# Altium schematic symbol library capacitors.SchLib: 195 symbols (part 4 of 4)
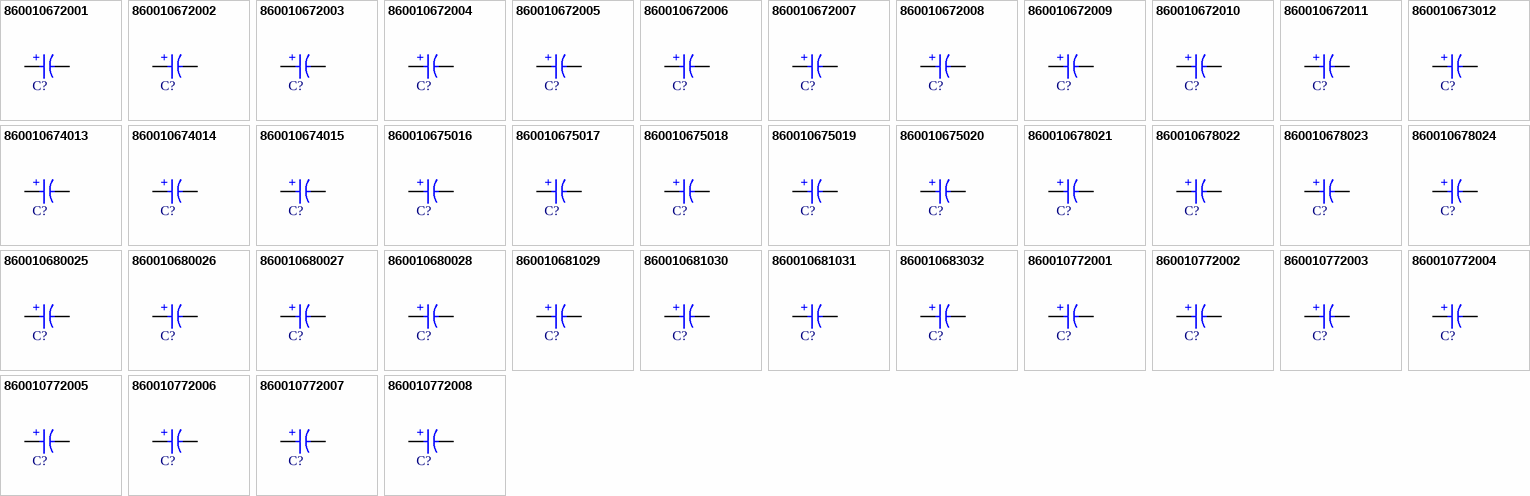
[diagram p7: symbols 860010672001 to 860010772008]

## 860010772004
designator C?, comment 0.47uF  (value not drawn)
WCAP-ATG8 Aluminum Electrolytic Capacitor, Radial, THT, D5 x H11mm, 0.47uF, 63V; Manufacturer Part Number: 860010772004; Manufacturer: Wurth Elektronik; Capacitance Tolerance: +/-20%; Dissipation Factor: 9%; Endurance: 2000h; Leakage Current: 3uA; Ripple Current: 8mA; Technical Reference: ATBC110R47M063DSPA3B000; Category: Aluminum Electrolytic Capacitors; Match Code: WCAP-ATG8; ComponentLink1Description: Website Link; ComponentLink1URL: https://www.we-online.com/redexpert/article/860010772004?ad; ComponentLink2Description: Datasheet Link; ComponentLink2URL: https://www.we-online.com/redexpert/spec/860010772004?ad; Mount: Through Hole; Operating Temperature Max: 85°C; Operating Temperature Min: -40°C; Packaging: Ammo Pack; Height: 11mm; Diameter: 5mm; Capacitance: 0.47uF; Rated Voltage (DC): 63V
footprint WCAP-ATG8_D5H11
simulation model 860010772004_470nF
pins: 1 P, 2 N
text: +

## 860010772005
designator C?, comment 1uF  (value not drawn)
WCAP-ATG8 Aluminum Electrolytic Capacitor, Radial, THT, D5 x H11mm, 1uF, 63V; Manufacturer Part Number: 860010772005; Manufacturer: Wurth Elektronik; Capacitance Tolerance: +/-20%; Dissipation Factor: 9%; Endurance: 2000h; Leakage Current: 3uA; Ripple Current: 17mA; Technical Reference: ATBC110010M063DSPA3B000; Category: Aluminum Electrolytic Capacitors; Match Code: WCAP-ATG8; ComponentLink1Description: Website Link; ComponentLink1URL: https://www.we-online.com/redexpert/article/860010772005?ad; ComponentLink2Description: Datasheet Link; ComponentLink2URL: https://www.we-online.com/redexpert/spec/860010772005?ad; Mount: Through Hole; Operating Temperature Max: 85°C; Operating Temperature Min: -40°C; Packaging: Ammo Pack; Height: 11mm; Diameter: 5mm; Capacitance: 1uF; Rated Voltage (DC): 63V
footprint WCAP-ATG8_D5H11
simulation model 860010772005_1uF
pins: 1 P, 2 N
text: +

## 860010772006
designator C?, comment 2.2uF  (value not drawn)
WCAP-ATG8 Aluminum Electrolytic Capacitor, Radial, THT, D5 x H11mm, 2.2uF, 63V; Manufacturer Part Number: 860010772006; Manufacturer: Wurth Elektronik; Capacitance Tolerance: +/-20%; Dissipation Factor: 9%; Endurance: 2000h; Leakage Current: 3uA; Ripple Current: 31mA; Technical Reference: ATBC1102R2M063DSPA3B000; Category: Aluminum Electrolytic Capacitors; Match Code: WCAP-ATG8; ComponentLink1Description: Website Link; ComponentLink1URL: https://www.we-online.com/redexpert/article/860010772006?ad; ComponentLink2Description: Datasheet Link; ComponentLink2URL: https://www.we-online.com/redexpert/spec/860010772006?ad; Mount: Through Hole; Operating Temperature Max: 85°C; Operating Temperature Min: -40°C; Packaging: Ammo Pack; Height: 11mm; Diameter: 5mm; Capacitance: 2.2uF; Rated Voltage (DC): 63V
footprint WCAP-ATG8_D5H11
simulation model 860010772006_2.2uF
pins: 1 P, 2 N
text: +

## 860010772007
designator C?, comment 3.3uF  (value not drawn)
WCAP-ATG8 Aluminum Electrolytic Capacitor, Radial, THT, D5 x H11mm, 3.3uF, 63V; Manufacturer Part Number: 860010772007; Manufacturer: Wurth Elektronik; Capacitance Tolerance: +/-20%; Dissipation Factor: 9%; Endurance: 2000h; Leakage Current: 3uA; Ripple Current: 39mA; Technical Reference: ATBC1103R3M063DSPA3B000; Category: Aluminum Electrolytic Capacitors; Match Code: WCAP-ATG8; ComponentLink1Description: Website Link; ComponentLink1URL: https://www.we-online.com/redexpert/article/860010772007?ad; ComponentLink2Description: Datasheet Link; ComponentLink2URL: https://www.we-online.com/redexpert/spec/860010772007?ad; Mount: Through Hole; Operating Temperature Max: 85°C; Operating Temperature Min: -40°C; Packaging: Ammo Pack; Height: 11mm; Diameter: 5mm; Capacitance: 3.3uF; Rated Voltage (DC): 63V
footprint WCAP-ATG8_D5H11
simulation model 860010772007_3.3uF
pins: 1 P, 2 N
text: +

## 860010772008
designator C?, comment 4.7uF  (value not drawn)
WCAP-ATG8 Aluminum Electrolytic Capacitor, Radial, THT, D5 x H11mm, 4.7uF, 63V; Manufacturer Part Number: 860010772008; Manufacturer: Wurth Elektronik; Capacitance Tolerance: +/-20%; Dissipation Factor: 9%; Endurance: 2000h; Leakage Current: 3uA; Ripple Current: 50mA; Technical Reference: ATBC1104R7M063DSPA3B000; Category: Aluminum Electrolytic Capacitors; Match Code: WCAP-ATG8; ComponentLink1Description: Website Link; ComponentLink1URL: https://www.we-online.com/redexpert/article/860010772008?ad; ComponentLink2Description: Datasheet Link; ComponentLink2URL: https://www.we-online.com/redexpert/spec/860010772008?ad; Mount: Through Hole; Operating Temperature Max: 85°C; Operating Temperature Min: -40°C; Packaging: Ammo Pack; Height: 11mm; Diameter: 5mm; Capacitance: 4.7uF; Rated Voltage (DC): 63V
footprint WCAP-ATG8_D5H11
simulation model 860010772008_4.7uF
pins: 1 P, 2 N
text: +

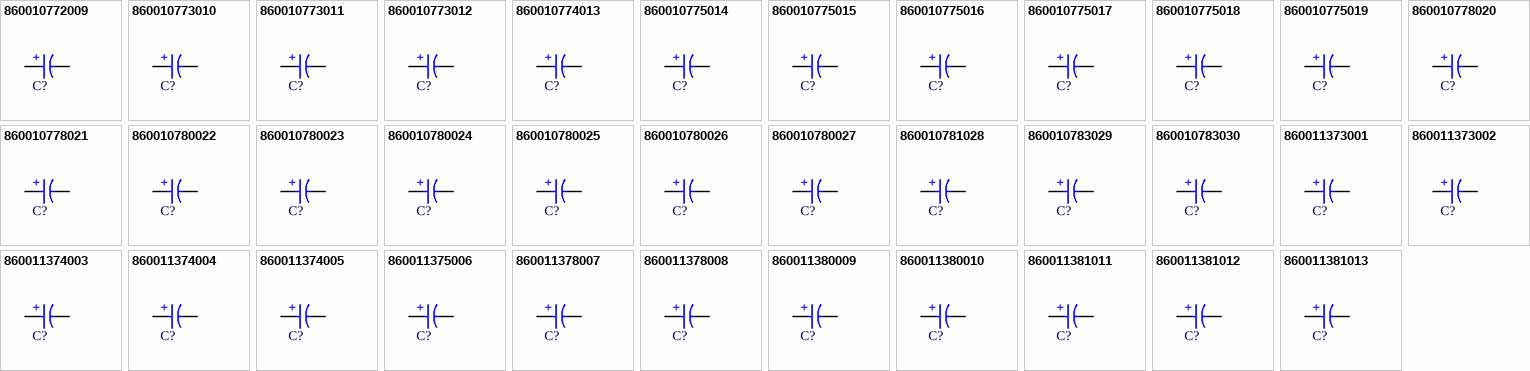
[diagram p4: symbols 860010772009 to 860011381013]

## 860010772009
designator C?, comment 10uF  (value not drawn)
WCAP-ATG8 Aluminum Electrolytic Capacitor, Radial, THT, D5 x H11mm, 10uF, 63V; Manufacturer Part Number: 860010772009; Manufacturer: Wurth Elektronik; Capacitance Tolerance: +/-20%; Dissipation Factor: 9%; Endurance: 2000h; Leakage Current: 6.3uA; Ripple Current: 77mA; Technical Reference: ATBC110100M063DSPA3B000; Category: Aluminum Electrolytic Capacitors; Match Code: WCAP-ATG8; ComponentLink1Description: Website Link; ComponentLink1URL: https://www.we-online.com/redexpert/article/860010772009?ad; ComponentLink2Description: Datasheet Link; ComponentLink2URL: https://www.we-online.com/redexpert/spec/860010772009?ad; Mount: Through Hole; Operating Temperature Max: 85°C; Operating Temperature Min: -40°C; Packaging: Ammo Pack; Height: 11mm; Diameter: 5mm; Capacitance: 10uF; Rated Voltage (DC): 63V
footprint WCAP-ATG8_D5H11
simulation model 860010772009_10uF
pins: 1 P, 2 N
text: +

## 860010773010
designator C?, comment 22uF  (value not drawn)
WCAP-ATG8 Aluminum Electrolytic Capacitor, Radial, THT, D6.3 x H11mm, 22uF, 63V; Manufacturer Part Number: 860010773010; Manufacturer: Wurth Elektronik; Capacitance Tolerance: +/-20%; Dissipation Factor: 9%; Endurance: 2000h; Leakage Current: 13.86uA; Ripple Current: 127mA; Technical Reference: ATBD110220M063DSPA4B000; Category: Aluminum Electrolytic Capacitors; Match Code: WCAP-ATG8; ComponentLink1Description: Website Link; ComponentLink1URL: https://www.we-online.com/redexpert/article/860010773010?ad; ComponentLink2Description: Datasheet Link; ComponentLink2URL: https://www.we-online.com/redexpert/spec/860010773010?ad; Mount: Through Hole; Operating Temperature Max: 85°C; Operating Temperature Min: -40°C; Packaging: Ammo Pack; Height: 11mm; Diameter: 6.3mm; Capacitance: 22uF; Rated Voltage (DC): 63V
footprint WCAP-ATG8_D6.3H11
simulation model 860010773010_22uF
pins: 1 P, 2 N
text: +

## 860010773011
designator C?, comment 33uF  (value not drawn)
WCAP-ATG8 Aluminum Electrolytic Capacitor, Radial, THT, D6.3 x H11mm, 33uF, 63V; Manufacturer Part Number: 860010773011; Manufacturer: Wurth Elektronik; Capacitance Tolerance: +/-20%; Dissipation Factor: 9%; Endurance: 2000h; Leakage Current: 20.79uA; Ripple Current: 149mA; Technical Reference: ATBD110330M063DSPA4B000; Category: Aluminum Electrolytic Capacitors; Match Code: WCAP-ATG8; ComponentLink1Description: Website Link; ComponentLink1URL: https://www.we-online.com/redexpert/article/860010773011?ad; ComponentLink2Description: Datasheet Link; ComponentLink2URL: https://www.we-online.com/redexpert/spec/860010773011?ad; Mount: Through Hole; Operating Temperature Max: 85°C; Operating Temperature Min: -40°C; Packaging: Ammo Pack; Height: 11mm; Diameter: 6.3mm; Capacitance: 33uF; Rated Voltage (DC): 63V
footprint WCAP-ATG8_D6.3H11
simulation model 860010773011_33uF
pins: 1 P, 2 N
text: +

## 860010773012
designator C?, comment 47uF  (value not drawn)
WCAP-ATG8 Aluminum Electrolytic Capacitor, Radial, THT, D6.3 x H11mm, 47uF, 63V; Manufacturer Part Number: 860010773012; Manufacturer: Wurth Elektronik; Capacitance Tolerance: +/-20%; Dissipation Factor: 9%; Endurance: 2000h; Leakage Current: 29.61uA; Ripple Current: 198mA; Technical Reference: ATBD110470M063DSPA4B000; Category: Aluminum Electrolytic Capacitors; Match Code: WCAP-ATG8; ComponentLink1Description: Website Link; ComponentLink1URL: https://www.we-online.com/redexpert/article/860010773012?ad; ComponentLink2Description: Datasheet Link; ComponentLink2URL: https://www.we-online.com/redexpert/spec/860010773012?ad; Mount: Through Hole; Operating Temperature Max: 85°C; Operating Temperature Min: -40°C; Packaging: Ammo Pack; Height: 11mm; Diameter: 6.3mm; Capacitance: 47uF; Rated Voltage (DC): 63V
footprint WCAP-ATG8_D6.3H11
simulation model 860010773012_47uF
pins: 1 P, 2 N
text: +

## 860010774013
designator C?, comment 68uF  (value not drawn)
WCAP-ATG8 Aluminum Electrolytic Capacitor, Radial, THT, D8 x H11.5mm, 68uF, 63V; Manufacturer Part Number: 860010774013; Manufacturer: Wurth Elektronik; Capacitance Tolerance: +/-20%; Dissipation Factor: 9%; Endurance: 2000h; Leakage Current: 42.84uA; Ripple Current: 253mA; Technical Reference: ATBE115680M063DSPA7B000; Category: Aluminum Electrolytic Capacitors; Match Code: WCAP-ATG8; ComponentLink1Description: Website Link; ComponentLink1URL: https://www.we-online.com/redexpert/article/860010774013?ad; ComponentLink2Description: Datasheet Link; ComponentLink2URL: https://www.we-online.com/redexpert/spec/860010774013?ad; Mount: Through Hole; Operating Temperature Max: 85°C; Operating Temperature Min: -40°C; Packaging: Ammo Pack; Height: 11.5mm; Diameter: 8mm; Capacitance: 68uF; Rated Voltage (DC): 63V
footprint WCAP-ATG8_D8H11.5
simulation model 860010774013_68uF
pins: 1 P, 2 N
text: +

## 860010775014
designator C?, comment 100uF  (value not drawn)
WCAP-ATG8 Aluminum Electrolytic Capacitor, Radial, THT, D10 x H12.5mm, 100uF, 63V; Manufacturer Part Number: 860010775014; Manufacturer: Wurth Elektronik; Capacitance Tolerance: +/-20%; Dissipation Factor: 9%; Endurance: 2000h; Leakage Current: 63uA; Ripple Current: 330mA; Technical Reference: ATBF125101M063DSPA9B000; Category: Aluminum Electrolytic Capacitors; Match Code: WCAP-ATG8; ComponentLink1Description: Website Link; ComponentLink1URL: https://www.we-online.com/redexpert/article/860010775014?ad; ComponentLink2Description: Datasheet Link; ComponentLink2URL: https://www.we-online.com/redexpert/spec/860010775014?ad; Mount: Through Hole; Operating Temperature Max: 85°C; Operating Temperature Min: -40°C; Packaging: Ammo Pack; Height: 12.5mm; Diameter: 10mm; Capacitance: 100uF; Rated Voltage (DC): 63V
footprint WCAP-ATG8_D10H12.5
simulation model 860010775014_100uF
pins: 1 P, 2 N
text: +

## 860010775015
designator C?, comment 120uF  (value not drawn)
WCAP-ATG8 Aluminum Electrolytic Capacitor, Radial, THT, D10 x H16mm, 120uF, 63V; Manufacturer Part Number: 860010775015; Manufacturer: Wurth Elektronik; Capacitance Tolerance: +/-20%; Dissipation Factor: 9%; Endurance: 2000h; Leakage Current: 75.6uA; Ripple Current: 396mA; Technical Reference: ATBF160121M063DSPAAB000; Category: Aluminum Electrolytic Capacitors; Match Code: WCAP-ATG8; ComponentLink1Description: Website Link; ComponentLink1URL: https://www.we-online.com/redexpert/article/860010775015?ad; ComponentLink2Description: Datasheet Link; ComponentLink2URL: https://www.we-online.com/redexpert/spec/860010775015?ad; Mount: Through Hole; Operating Temperature Max: 85°C; Operating Temperature Min: -40°C; Packaging: Ammo Pack; Height: 16mm; Diameter: 10mm; Capacitance: 120uF; Rated Voltage (DC): 63V
footprint WCAP-ATG8_D10H16
simulation model 860010775015_120uF
pins: 1 P, 2 N
text: +

## 860010775016
designator C?, comment 150uF  (value not drawn)
WCAP-ATG8 Aluminum Electrolytic Capacitor, Radial, THT, D10 x H16mm, 150uF, 63V; Manufacturer Part Number: 860010775016; Manufacturer: Wurth Elektronik; Capacitance Tolerance: +/-20%; Dissipation Factor: 9%; Endurance: 2000h; Leakage Current: 94.5uA; Ripple Current: 462mA; Technical Reference: ATBF160151M063DSPAAB000; Category: Aluminum Electrolytic Capacitors; Match Code: WCAP-ATG8; ComponentLink1Description: Website Link; ComponentLink1URL: https://www.we-online.com/redexpert/article/860010775016?ad; ComponentLink2Description: Datasheet Link; ComponentLink2URL: https://www.we-online.com/redexpert/spec/860010775016?ad; Mount: Through Hole; Operating Temperature Max: 85°C; Operating Temperature Min: -40°C; Packaging: Ammo Pack; Height: 16mm; Diameter: 10mm; Capacitance: 150uF; Rated Voltage (DC): 63V
footprint WCAP-ATG8_D10H16
simulation model 860010775016_150uF
pins: 1 P, 2 N
text: +

## 860010775017
designator C?, comment 180uF  (value not drawn)
WCAP-ATG8 Aluminum Electrolytic Capacitor, Radial, THT, D10 x H16mm, 180uF, 63V; Manufacturer Part Number: 860010775017; Manufacturer: Wurth Elektronik; Capacitance Tolerance: +/-20%; Dissipation Factor: 9%; Endurance: 2000h; Leakage Current: 113.4uA; Ripple Current: 528mA; Technical Reference: ATBF160181M063DSPAAB000; Category: Aluminum Electrolytic Capacitors; Match Code: WCAP-ATG8; ComponentLink1Description: Website Link; ComponentLink1URL: https://www.we-online.com/redexpert/article/860010775017?ad; ComponentLink2Description: Datasheet Link; ComponentLink2URL: https://www.we-online.com/redexpert/spec/860010775017?ad; Mount: Through Hole; Operating Temperature Max: 85°C; Operating Temperature Min: -40°C; Packaging: Ammo Pack; Height: 16mm; Diameter: 10mm; Capacitance: 180uF; Rated Voltage (DC): 63V
footprint WCAP-ATG8_D10H16
simulation model 860010775017_180uF
pins: 1 P, 2 N
text: +

## 860010775018
designator C?, comment 220uF  (value not drawn)
WCAP-ATG8 Aluminum Electrolytic Capacitor, Radial, THT, D10 x H16mm, 220uF, 63V; Manufacturer Part Number: 860010775018; Manufacturer: Wurth Elektronik; Capacitance Tolerance: +/-20%; Dissipation Factor: 9%; Endurance: 2000h; Leakage Current: 138.6uA; Ripple Current: 550mA; Technical Reference: ATBF160221M063DSPAAB000; Category: Aluminum Electrolytic Capacitors; Match Code: WCAP-ATG8; ComponentLink1Description: Website Link; ComponentLink1URL: https://www.we-online.com/redexpert/article/860010775018?ad; ComponentLink2Description: Datasheet Link; ComponentLink2URL: https://www.we-online.com/redexpert/spec/860010775018?ad; Mount: Through Hole; Operating Temperature Max: 85°C; Operating Temperature Min: -40°C; Packaging: Ammo Pack; Height: 16mm; Diameter: 10mm; Capacitance: 220uF; Rated Voltage (DC): 63V
footprint WCAP-ATG8_D10H16
simulation model 860010775018_220uF
pins: 1 P, 2 N
text: +

## 860010775019
designator C?, comment 330uF  (value not drawn)
WCAP-ATG8 Aluminum Electrolytic Capacitor, Radial, THT, D10 x H20mm, 330uF, 63V; Manufacturer Part Number: 860010775019; Manufacturer: Wurth Elektronik; Capacitance Tolerance: +/-20%; Dissipation Factor: 9%; Endurance: 2000h; Leakage Current: 207.9uA; Ripple Current: 759mA; Technical Reference: ATBF200331M063DSPAAB000; Category: Aluminum Electrolytic Capacitors; Match Code: WCAP-ATG8; ComponentLink1Description: Website Link; ComponentLink1URL: https://www.we-online.com/redexpert/article/860010775019?ad; ComponentLink2Description: Datasheet Link; ComponentLink2URL: https://www.we-online.com/redexpert/spec/860010775019?ad; Mount: Through Hole; Operating Temperature Max: 85°C; Operating Temperature Min: -40°C; Packaging: Ammo Pack; Height: 20mm; Diameter: 10mm; Capacitance: 330uF; Rated Voltage (DC): 63V
footprint WCAP-ATG8_D10H20
simulation model 860010775019_330uF
pins: 1 P, 2 N
text: +

## 860010778020
designator C?, comment 470uF  (value not drawn)
WCAP-ATG8 Aluminum Electrolytic Capacitor, Radial, THT, D13 x H20mm, 470uF, 63V; Manufacturer Part Number: 860010778020; Manufacturer: Wurth Elektronik; Capacitance Tolerance: +/-20%; Dissipation Factor: 9%; Endurance: 2000h; Leakage Current: 296.1uA; Ripple Current: 968mA; Technical Reference: ATBI200471M063DSPACB000; Category: Aluminum Electrolytic Capacitors; Match Code: WCAP-ATG8; ComponentLink1Description: Website Link; ComponentLink1URL: https://www.we-online.com/redexpert/article/860010778020?ad; ComponentLink2Description: Datasheet Link; ComponentLink2URL: https://www.we-online.com/redexpert/spec/860010778020?ad; Mount: Through Hole; Operating Temperature Max: 85°C; Operating Temperature Min: -40°C; Packaging: Ammo Pack; Height: 20mm; Diameter: 13mm; Capacitance: 470uF; Rated Voltage (DC): 63V
footprint WCAP-ATG8_D13H20
simulation model 860010778020_470uF
pins: 1 P, 2 N
text: +

## 860010778021
designator C?, comment 560uF  (value not drawn)
WCAP-ATG8 Aluminum Electrolytic Capacitor, Radial, THT, D13 x H25mm, 560uF, 63V; Manufacturer Part Number: 860010778021; Manufacturer: Wurth Elektronik; Capacitance Tolerance: +/-20%; Dissipation Factor: 9%; Endurance: 2000h; Leakage Current: 352.8uA; Ripple Current: 1056mA; Technical Reference: ATBI250561M063DSPACB000; Category: Aluminum Electrolytic Capacitors; Match Code: WCAP-ATG8; ComponentLink1Description: Website Link; ComponentLink1URL: https://www.we-online.com/redexpert/article/860010778021?ad; ComponentLink2Description: Datasheet Link; ComponentLink2URL: https://www.we-online.com/redexpert/spec/860010778021?ad; Mount: Through Hole; Operating Temperature Max: 85°C; Operating Temperature Min: -40°C; Packaging: Ammo Pack; Height: 25mm; Diameter: 13mm; Capacitance: 560uF; Rated Voltage (DC): 63V
footprint WCAP-ATG8_D13H25
simulation model 860010778021_560uF
pins: 1 P, 2 N
text: +

## 860010780022
designator C?, comment 680uF  (value not drawn)
WCAP-ATG8 Aluminum Electrolytic Capacitor, Radial, THT, D16 x H25mm, 680uF, 63V; Manufacturer Part Number: 860010780022; Manufacturer: Wurth Elektronik; Capacitance Tolerance: +/-20%; Dissipation Factor: 9%; Endurance: 2000h; Leakage Current: 428.4uA; Ripple Current: 1265mA; Technical Reference: ATBK250681M063DSPAEB000; Category: Aluminum Electrolytic Capacitors; Match Code: WCAP-ATG8; ComponentLink1Description: Website Link; ComponentLink1URL: https://www.we-online.com/redexpert/article/860010780022?ad; ComponentLink2Description: Datasheet Link; ComponentLink2URL: https://www.we-online.com/redexpert/spec/860010780022?ad; Mount: Through Hole; Operating Temperature Max: 85°C; Operating Temperature Min: -40°C; Packaging: Ammo Pack; Height: 25mm; Diameter: 16mm; Capacitance: 680uF; Rated Voltage (DC): 63V
footprint WCAP-ATG8_D16H25
simulation model 860010780022_680uF
pins: 1 P, 2 N
text: +

## 860010780023
designator C?, comment 820uF  (value not drawn)
WCAP-ATG8 Aluminum Electrolytic Capacitor, Radial, THT, D16 x H25mm, 820uF, 63V; Manufacturer Part Number: 860010780023; Manufacturer: Wurth Elektronik; Capacitance Tolerance: +/-20%; Dissipation Factor: 9%; Endurance: 2000h; Leakage Current: 516.6uA; Ripple Current: 1430mA; Technical Reference: ATBK250821M063DSPAEB000; Category: Aluminum Electrolytic Capacitors; Match Code: WCAP-ATG8; ComponentLink1Description: Website Link; ComponentLink1URL: https://www.we-online.com/redexpert/article/860010780023?ad; ComponentLink2Description: Datasheet Link; ComponentLink2URL: https://www.we-online.com/redexpert/spec/860010780023?ad; Mount: Through Hole; Operating Temperature Max: 85°C; Operating Temperature Min: -40°C; Packaging: Ammo Pack; Height: 25mm; Diameter: 16mm; Capacitance: 820uF; Rated Voltage (DC): 63V
footprint WCAP-ATG8_D16H25
simulation model 860010780023_820uF
pins: 1 P, 2 N
text: +

## 860010780024
designator C?, comment 1000uF  (value not drawn)
WCAP-ATG8 Aluminum Electrolytic Capacitor, Radial, THT, D16 x H25mm, 1000uF, 63V; Manufacturer Part Number: 860010780024; Manufacturer: Wurth Elektronik; Capacitance Tolerance: +/-20%; Dissipation Factor: 9%; Endurance: 2000h; Leakage Current: 630uA; Ripple Current: 1540mA; Technical Reference: ATBK250102M063DSPAEB000; Category: Aluminum Electrolytic Capacitors; Match Code: WCAP-ATG8; ComponentLink1Description: Website Link; ComponentLink1URL: https://www.we-online.com/redexpert/article/860010780024?ad; ComponentLink2Description: Datasheet Link; ComponentLink2URL: https://www.we-online.com/redexpert/spec/860010780024?ad; Mount: Through Hole; Operating Temperature Max: 85°C; Operating Temperature Min: -40°C; Packaging: Ammo Pack; Height: 25mm; Diameter: 16mm; Capacitance: 1000uF; Rated Voltage (DC): 63V
footprint WCAP-ATG8_D16H25
simulation model 860010780024_1mF
pins: 1 P, 2 N
text: +

## 860010780025
designator C?, comment 1200uF  (value not drawn)
WCAP-ATG8 Aluminum Electrolytic Capacitor, Radial, THT, D16 x H31.5mm, 1200uF, 63V; Manufacturer Part Number: 860010780025; Manufacturer: Wurth Elektronik; Capacitance Tolerance: +/-20%; Dissipation Factor: 9%; Endurance: 2000h; Leakage Current: 756uA; Ripple Current: 1837mA; Technical Reference: ATBK315122M063DSPADB000; Category: Aluminum Electrolytic Capacitors; Match Code: WCAP-ATG8; ComponentLink1Description: Website Link; ComponentLink1URL: https://www.we-online.com/redexpert/article/860010780025?ad; ComponentLink2Description: Datasheet Link; ComponentLink2URL: https://www.we-online.com/redexpert/spec/860010780025?ad; Mount: Through Hole; Operating Temperature Max: 85°C; Operating Temperature Min: -40°C; Packaging: Ammo Pack; Height: 31.5mm; Diameter: 16mm; Capacitance: 1200uF; Rated Voltage (DC): 63V
footprint WCAP-ATG8_D16H31.5
simulation model 860010780025_1.2mF
pins: 1 P, 2 N
text: +

## 860010780026
designator C?, comment 1500uF  (value not drawn)
WCAP-ATG8 Aluminum Electrolytic Capacitor, Radial, THT, D16 x H35.5mm, 1500uF, 63V; Manufacturer Part Number: 860010780026; Manufacturer: Wurth Elektronik; Capacitance Tolerance: +/-20%; Dissipation Factor: 9%; Endurance: 2000h; Leakage Current: 945uA; Ripple Current: 2090mA; Technical Reference: ATBK355152M063DSPADB000; Category: Aluminum Electrolytic Capacitors; Match Code: WCAP-ATG8; ComponentLink1Description: Website Link; ComponentLink1URL: https://www.we-online.com/redexpert/article/860010780026?ad; ComponentLink2Description: Datasheet Link; ComponentLink2URL: https://www.we-online.com/redexpert/spec/860010780026?ad; Mount: Through Hole; Operating Temperature Max: 85°C; Operating Temperature Min: -40°C; Packaging: Ammo Pack; Height: 35.5mm; Diameter: 16mm; Capacitance: 1500uF; Rated Voltage (DC): 63V
footprint WCAP-ATG8_D16H35.5
simulation model 860010780026_1.5mF
pins: 1 P, 2 N
text: +

## 860010780027
designator C?, comment 1800uF  (value not drawn)
WCAP-ATG8 Aluminum Electrolytic Capacitor, Radial, THT, D16 x H35.5mm, 1800uF, 63V; Manufacturer Part Number: 860010780027; Manufacturer: Wurth Elektronik; Capacitance Tolerance: +/-20%; Dissipation Factor: 9%; Endurance: 2000h; Leakage Current: 1134uA; Ripple Current: 2255mA; Technical Reference: ATBK355182M063DSPADB000; Category: Aluminum Electrolytic Capacitors; Match Code: WCAP-ATG8; ComponentLink1Description: Website Link; ComponentLink1URL: https://www.we-online.com/redexpert/article/860010780027?ad; ComponentLink2Description: Datasheet Link; ComponentLink2URL: https://www.we-online.com/redexpert/spec/860010780027?ad; Mount: Through Hole; Operating Temperature Max: 85°C; Operating Temperature Min: -40°C; Packaging: Ammo Pack; Height: 35.5mm; Diameter: 16mm; Capacitance: 1800uF; Rated Voltage (DC): 63V
footprint WCAP-ATG8_D16H35.5
simulation model 860010780027_1.8mF
pins: 1 P, 2 N
text: +

## 860010781028
designator C?, comment 2200uF  (value not drawn)
WCAP-ATG8 Aluminum Electrolytic Capacitor, Radial, THT, D18 x H35.5mm, 2200uF, 63V; Manufacturer Part Number: 860010781028; Manufacturer: Wurth Elektronik; Capacitance Tolerance: +/-20%; Dissipation Factor: 9%; Endurance: 2000h; Leakage Current: 1386uA; Ripple Current: 2475mA; Technical Reference: ATBL355222M063DSPAEB000; Category: Aluminum Electrolytic Capacitors; Match Code: WCAP-ATG8; ComponentLink1Description: Website Link; ComponentLink1URL: https://www.we-online.com/redexpert/article/860010781028?ad; ComponentLink2Description: Datasheet Link; ComponentLink2URL: https://www.we-online.com/redexpert/spec/860010781028?ad; Mount: Through Hole; Operating Temperature Max: 85°C; Operating Temperature Min: -40°C; Packaging: Ammo Pack; Height: 35.5mm; Diameter: 18mm; Capacitance: 2200uF; Rated Voltage (DC): 63V
footprint WCAP-ATG8_D18H35.5
simulation model 860010781028_2.2mF
pins: 1 P, 2 N
text: +

## 860010783029
designator C?, comment 2700uF  (value not drawn)
WCAP-ATG8 Aluminum Electrolytic Capacitor, Radial, THT, D22 x H41mm, 2700uF, 63V; Manufacturer Part Number: 860010783029; Manufacturer: Wurth Elektronik; Capacitance Tolerance: +/-20%; Dissipation Factor: 9%; Endurance: 2000h; Leakage Current: 1701uA; Ripple Current: 2860mA; Technical Reference: ATBN410272M063DSPS2B000; Category: Aluminum Electrolytic Capacitors; Match Code: WCAP-ATG8; ComponentLink1Description: Website Link; ComponentLink1URL: https://www.we-online.com/redexpert/article/860010783029?ad; ComponentLink2Description: Datasheet Link; ComponentLink2URL: https://www.we-online.com/redexpert/spec/860010783029?ad; Mount: Through Hole; Operating Temperature Max: 85°C; Operating Temperature Min: -40°C; Packaging: Ammo Pack; Height: 41mm; Diameter: 22mm; Capacitance: 2700uF; Rated Voltage (DC): 63V
footprint WCAP-ATG8_D22H41
simulation model 860010783029_2.7mF
pins: 1 P, 2 N
text: +

## 860010783030
designator C?, comment 3300uF  (value not drawn)
WCAP-ATG8 Aluminum Electrolytic Capacitor, Radial, THT, D22 x H41mm, 3300uF, 63V; Manufacturer Part Number: 860010783030; Manufacturer: Wurth Elektronik; Capacitance Tolerance: +/-20%; Dissipation Factor: 9%; Endurance: 2000h; Leakage Current: 2079uA; Ripple Current: 3080mA; Technical Reference: ATBN410332M063DSPS2B000; Category: Aluminum Electrolytic Capacitors; Match Code: WCAP-ATG8; ComponentLink1Description: Website Link; ComponentLink1URL: https://www.we-online.com/redexpert/article/860010783030?ad; ComponentLink2Description: Datasheet Link; ComponentLink2URL: https://www.we-online.com/redexpert/spec/860010783030?ad; Mount: Through Hole; Operating Temperature Max: 85°C; Operating Temperature Min: -40°C; Packaging: Ammo Pack; Height: 41mm; Diameter: 22mm; Capacitance: 3300uF; Rated Voltage (DC): 63V
footprint WCAP-ATG8_D22H41
simulation model 860010783030_3.3mF
pins: 1 P, 2 N
text: +

## 860011373001
designator C?, comment 0.47uF  (value not drawn)
WCAP-ATG8 Aluminum Electrolytic Capacitor, Radial, THT, D6.3 x H11mm, 0.47uF, 400V; Manufacturer Part Number: 860011373001; Manufacturer: Wurth Elektronik; Capacitance Tolerance: +/-20%; Dissipation Factor: 15%; Endurance: 2000h; Leakage Current: 5.64uA; Ripple Current: 12mA; Technical Reference: ATAD110R47M400DSPA4B000; Category: Aluminum Electrolytic Capacitors; Match Code: WCAP-ATG8; ComponentLink1Description: Website Link; ComponentLink1URL: https://www.we-online.com/redexpert/article/860011373001?ad; ComponentLink2Description: Datasheet Link; ComponentLink2URL: https://www.we-online.com/redexpert/spec/860011373001?ad; Mount: Through Hole; Operating Temperature Max: 85°C; Operating Temperature Min: -25°C; Packaging: Ammo Pack; Height: 11mm; Diameter: 6.3mm; Capacitance: 0.47uF; Rated Voltage (DC): 400V
footprint WCAP-ATG8_D6.3H11
simulation model 860011373001_470nF
pins: 1 P, 2 N
text: +

## 860011373002
designator C?, comment 1uF  (value not drawn)
WCAP-ATG8 Aluminum Electrolytic Capacitor, Radial, THT, D6.3 x H11mm, 1uF, 400V; Manufacturer Part Number: 860011373002; Manufacturer: Wurth Elektronik; Capacitance Tolerance: +/-20%; Dissipation Factor: 15%; Endurance: 2000h; Leakage Current: 12uA; Ripple Current: 20mA; Technical Reference: ATAD110010M400DSPA4B000; Category: Aluminum Electrolytic Capacitors; Match Code: WCAP-ATG8; ComponentLink1Description: Website Link; ComponentLink1URL: https://www.we-online.com/redexpert/article/860011373002?ad; ComponentLink2Description: Datasheet Link; ComponentLink2URL: https://www.we-online.com/redexpert/spec/860011373002?ad; Mount: Through Hole; Operating Temperature Max: 85°C; Operating Temperature Min: -25°C; Packaging: Ammo Pack; Height: 11mm; Diameter: 6.3mm; Capacitance: 1uF; Rated Voltage (DC): 400V
footprint WCAP-ATG8_D6.3H11
simulation model 860011373002_1uF
pins: 1 P, 2 N
text: +

## 860011374003
designator C?, comment 2.2uF  (value not drawn)
WCAP-ATG8 Aluminum Electrolytic Capacitor, Radial, THT, D8 x H11.5mm, 2.2uF, 400V; Manufacturer Part Number: 860011374003; Manufacturer: Wurth Elektronik; Capacitance Tolerance: +/-20%; Dissipation Factor: 15%; Endurance: 2000h; Leakage Current: 26.4uA; Ripple Current: 32mA; Technical Reference: ATAE1152R2M400DSPA7B000; Category: Aluminum Electrolytic Capacitors; Match Code: WCAP-ATG8; ComponentLink1Description: Website Link; ComponentLink1URL: https://www.we-online.com/redexpert/article/860011374003?ad; ComponentLink2Description: Datasheet Link; ComponentLink2URL: https://www.we-online.com/redexpert/spec/860011374003?ad; Mount: Through Hole; Operating Temperature Max: 85°C; Operating Temperature Min: -25°C; Packaging: Ammo Pack; Height: 11.5mm; Diameter: 8mm; Capacitance: 2.2uF; Rated Voltage (DC): 400V
footprint WCAP-ATG8_D8H11.5
simulation model 860011374003_2.2uF
pins: 1 P, 2 N
text: +

## 860011374004
designator C?, comment 3.3uF  (value not drawn)
WCAP-ATG8 Aluminum Electrolytic Capacitor, Radial, THT, D8 x H11.5mm, 3.3uF, 400V; Manufacturer Part Number: 860011374004; Manufacturer: Wurth Elektronik; Capacitance Tolerance: +/-20%; Dissipation Factor: 15%; Endurance: 2000h; Leakage Current: 39.6uA; Ripple Current: 45mA; Technical Reference: ATAE1153R3M400DSPA7B000; Category: Aluminum Electrolytic Capacitors; Match Code: WCAP-ATG8; ComponentLink1Description: Website Link; ComponentLink1URL: https://www.we-online.com/redexpert/article/860011374004?ad; ComponentLink2Description: Datasheet Link; ComponentLink2URL: https://www.we-online.com/redexpert/spec/860011374004?ad; Mount: Through Hole; Operating Temperature Max: 85°C; Operating Temperature Min: -25°C; Packaging: Ammo Pack; Height: 11.5mm; Diameter: 8mm; Capacitance: 3.3uF; Rated Voltage (DC): 400V
footprint WCAP-ATG8_D8H11.5
simulation model 860011374004_3.3uF
pins: 1 P, 2 N
text: +

## 860011374005
designator C?, comment 4.7uF  (value not drawn)
WCAP-ATG8 Aluminum Electrolytic Capacitor, Radial, THT, D8 x H11.5mm, 4.7uF, 400V; Manufacturer Part Number: 860011374005; Manufacturer: Wurth Elektronik; Capacitance Tolerance: +/-20%; Dissipation Factor: 15%; Endurance: 2000h; Leakage Current: 56.4uA; Ripple Current: 55mA; Technical Reference: ATAE1154R7M400DSPA7B000; Category: Aluminum Electrolytic Capacitors; Match Code: WCAP-ATG8; ComponentLink1Description: Website Link; ComponentLink1URL: https://www.we-online.com/redexpert/article/860011374005?ad; ComponentLink2Description: Datasheet Link; ComponentLink2URL: https://www.we-online.com/redexpert/spec/860011374005?ad; Mount: Through Hole; Operating Temperature Max: 85°C; Operating Temperature Min: -25°C; Packaging: Ammo Pack; Height: 11.5mm; Diameter: 8mm; Capacitance: 4.7uF; Rated Voltage (DC): 400V
footprint WCAP-ATG8_D8H11.5
simulation model 860011374005_4.7uF
pins: 1 P, 2 N
text: +

## 860011375006
designator C?, comment 10uF  (value not drawn)
WCAP-ATG8 Aluminum Electrolytic Capacitor, Radial, THT, D10 x H16mm, 10uF, 400V; Manufacturer Part Number: 860011375006; Manufacturer: Wurth Elektronik; Capacitance Tolerance: +/-20%; Dissipation Factor: 15%; Endurance: 2000h; Leakage Current: 120uA; Ripple Current: 100mA; Technical Reference: ATAF160100M400DSPAAB000; Category: Aluminum Electrolytic Capacitors; Match Code: WCAP-ATG8; ComponentLink1Description: Website Link; ComponentLink1URL: https://www.we-online.com/redexpert/article/860011375006?ad; ComponentLink2Description: Datasheet Link; ComponentLink2URL: https://www.we-online.com/redexpert/spec/860011375006?ad; Mount: Through Hole; Operating Temperature Max: 85°C; Operating Temperature Min: -25°C; Packaging: Ammo Pack; Height: 16mm; Diameter: 10mm; Capacitance: 10uF; Rated Voltage (DC): 400V
footprint WCAP-ATG8_D10H16
simulation model 860011375006_10uF
pins: 1 P, 2 N
text: +

## 860011378007
designator C?, comment 22uF  (value not drawn)
WCAP-ATG8 Aluminum Electrolytic Capacitor, Radial, THT, D13 x H20mm, 22uF, 400V; Manufacturer Part Number: 860011378007; Manufacturer: Wurth Elektronik; Capacitance Tolerance: +/-20%; Dissipation Factor: 15%; Endurance: 2000h; Leakage Current: 264uA; Ripple Current: 190mA; Technical Reference: ATAI200220M400DSPACB000; Category: Aluminum Electrolytic Capacitors; Match Code: WCAP-ATG8; ComponentLink1Description: Website Link; ComponentLink1URL: https://www.we-online.com/redexpert/article/860011378007?ad; ComponentLink2Description: Datasheet Link; ComponentLink2URL: https://www.we-online.com/redexpert/spec/860011378007?ad; Mount: Through Hole; Operating Temperature Max: 85°C; Operating Temperature Min: -25°C; Packaging: Ammo Pack; Height: 20mm; Diameter: 13mm; Capacitance: 22uF; Rated Voltage (DC): 400V
footprint WCAP-ATG8_D13H20
simulation model 860011378007_22uF
pins: 1 P, 2 N
text: +

## 860011378008
designator C?, comment 33uF  (value not drawn)
WCAP-ATG8 Aluminum Electrolytic Capacitor, Radial, THT, D13 x H25mm, 33uF, 400V; Manufacturer Part Number: 860011378008; Manufacturer: Wurth Elektronik; Capacitance Tolerance: +/-20%; Dissipation Factor: 15%; Endurance: 2000h; Leakage Current: 396uA; Ripple Current: 230mA; Technical Reference: ATAI250330M400DSPACB000; Category: Aluminum Electrolytic Capacitors; Match Code: WCAP-ATG8; ComponentLink1Description: Website Link; ComponentLink1URL: https://www.we-online.com/redexpert/article/860011378008?ad; ComponentLink2Description: Datasheet Link; ComponentLink2URL: https://www.we-online.com/redexpert/spec/860011378008?ad; Mount: Through Hole; Operating Temperature Max: 85°C; Operating Temperature Min: -25°C; Packaging: Ammo Pack; Height: 25mm; Diameter: 13mm; Capacitance: 33uF; Rated Voltage (DC): 400V
footprint WCAP-ATG8_D13H25
simulation model 860011378008_33uF
pins: 1 P, 2 N
text: +

## 860011380009
designator C?, comment 47uF  (value not drawn)
WCAP-ATG8 Aluminum Electrolytic Capacitor, Radial, THT, D16 x H25mm, 47uF, 400V; Manufacturer Part Number: 860011380009; Manufacturer: Wurth Elektronik; Capacitance Tolerance: +/-20%; Dissipation Factor: 15%; Endurance: 2000h; Leakage Current: 564uA; Ripple Current: 270mA; Technical Reference: ATAK250470M400DSPAEB000; Category: Aluminum Electrolytic Capacitors; Match Code: WCAP-ATG8; ComponentLink1Description: Website Link; ComponentLink1URL: https://www.we-online.com/redexpert/article/860011380009?ad; ComponentLink2Description: Datasheet Link; ComponentLink2URL: https://www.we-online.com/redexpert/spec/860011380009?ad; Mount: Through Hole; Operating Temperature Max: 85°C; Operating Temperature Min: -25°C; Packaging: Ammo Pack; Height: 25mm; Diameter: 16mm; Capacitance: 47uF; Rated Voltage (DC): 400V
footprint WCAP-ATG8_D16H25
simulation model 860011380009_47uF
pins: 1 P, 2 N
text: +

## 860011380010
designator C?, comment 68uF  (value not drawn)
WCAP-ATG8 Aluminum Electrolytic Capacitor, Radial, THT, D16 x H35.5mm, 68uF, 400V; Manufacturer Part Number: 860011380010; Manufacturer: Wurth Elektronik; Capacitance Tolerance: +/-20%; Dissipation Factor: 15%; Endurance: 2000h; Leakage Current: 816uA; Ripple Current: 410mA; Technical Reference: ATAK355680M400DSPADB000; Category: Aluminum Electrolytic Capacitors; Match Code: WCAP-ATG8; ComponentLink1Description: Website Link; ComponentLink1URL: https://www.we-online.com/redexpert/article/860011380010?ad; ComponentLink2Description: Datasheet Link; ComponentLink2URL: https://www.we-online.com/redexpert/spec/860011380010?ad; Mount: Through Hole; Operating Temperature Max: 85°C; Operating Temperature Min: -25°C; Packaging: Ammo Pack; Height: 35.5mm; Diameter: 16mm; Capacitance: 68uF; Rated Voltage (DC): 400V
footprint WCAP-ATG8_D16H35.5
simulation model 860011380010_68uF
pins: 1 P, 2 N
text: +

## 860011381011
designator C?, comment 68uF  (value not drawn)
WCAP-ATG8 Aluminum Electrolytic Capacitor, Radial, THT, D18 x H25mm, 68uF, 400V; Manufacturer Part Number: 860011381011; Manufacturer: Wurth Elektronik; Capacitance Tolerance: +/-20%; Dissipation Factor: 15%; Endurance: 2000h; Leakage Current: 816uA; Ripple Current: 380mA; Technical Reference: ATAL250680M400DSPAEB000; Category: Aluminum Electrolytic Capacitors; Match Code: WCAP-ATG8; ComponentLink1Description: Website Link; ComponentLink1URL: https://www.we-online.com/redexpert/article/860011381011?ad; ComponentLink2Description: Datasheet Link; ComponentLink2URL: https://www.we-online.com/redexpert/spec/860011381011?ad; Mount: Through Hole; Operating Temperature Max: 85°C; Operating Temperature Min: -25°C; Packaging: Ammo Pack; Height: 25mm; Diameter: 18mm; Capacitance: 68uF; Rated Voltage (DC): 400V
footprint WCAP-ATG8_D18H25
simulation model 860011381011_68uF
pins: 1 P, 2 N
text: +

## 860011381012
designator C?, comment 100uF  (value not drawn)
WCAP-ATG8 Aluminum Electrolytic Capacitor, Radial, THT, D18 x H31.5mm, 100uF, 400V; Manufacturer Part Number: 860011381012; Manufacturer: Wurth Elektronik; Capacitance Tolerance: +/-20%; Dissipation Factor: 15%; Endurance: 2000h; Leakage Current: 1200uA; Ripple Current: 440mA; Technical Reference: ATAL315101M400DSPAEB000; Category: Aluminum Electrolytic Capacitors; Match Code: WCAP-ATG8; ComponentLink1Description: Website Link; ComponentLink1URL: https://www.we-online.com/redexpert/article/860011381012?ad; ComponentLink2Description: Datasheet Link; ComponentLink2URL: https://www.we-online.com/redexpert/spec/860011381012?ad; Mount: Through Hole; Operating Temperature Max: 85°C; Operating Temperature Min: -25°C; Packaging: Ammo Pack; Height: 31.5mm; Diameter: 18mm; Capacitance: 100uF; Rated Voltage (DC): 400V
footprint WCAP-ATG8_D18H31.5
simulation model 860011381012_100uF
pins: 1 P, 2 N
text: +

## 860011381013
designator C?, comment 120uF  (value not drawn)
WCAP-ATG8 Aluminum Electrolytic Capacitor, Radial, THT, D18 x H41mm, 120uF, 400V; Manufacturer Part Number: 860011381013; Manufacturer: Wurth Elektronik; Capacitance Tolerance: +/-20%; Dissipation Factor: 15%; Endurance: 2000h; Leakage Current: 1440uA; Ripple Current: 520mA; Technical Reference: ATAL410121M400DSPS1B000; Category: Aluminum Electrolytic Capacitors; Match Code: WCAP-ATG8; ComponentLink1Description: Website Link; ComponentLink1URL: https://www.we-online.com/redexpert/article/860011381013?ad; ComponentLink2Description: Datasheet Link; ComponentLink2URL: https://www.we-online.com/redexpert/spec/860011381013?ad; Mount: Through Hole; Operating Temperature Max: 85°C; Operating Temperature Min: -25°C; Packaging: Ammo Pack; Height: 41mm; Diameter: 18mm; Capacitance: 120uF; Rated Voltage (DC): 400V
footprint WCAP-ATG8_D18H41
simulation model 860011381013_120uF
pins: 1 P, 2 N
text: +